# EAGLE library part TJA1040 (library lieven)
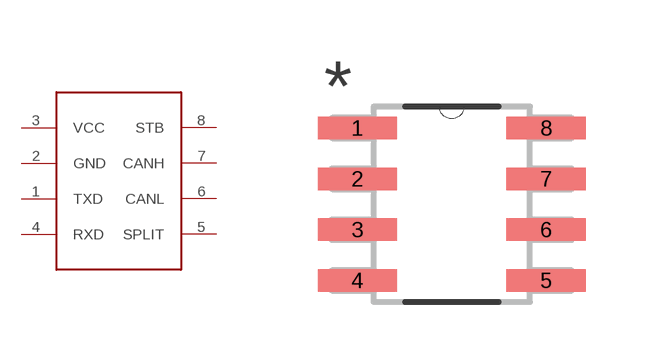
[diagram p7: symbol with the pads of SOIC8-N_MC; footprint SOIC8-N_MC]

Designator prefix -

## TJA1040  [SOIC8-N_MC]
1  TXD  in
2  GND  pwr
3  VCC  pwr
4  RXD  out
5  SPLIT
6  CANL
7  CANH
8  STB

## Footprint SOIC8-N_MC (pad centres in mm)
smd 1.981 x 0.559: 1 -2.362,1.905; 2 -2.362,0.635; 3 -2.362,-0.635; 4 -2.362,-1.905; 5 2.362,-1.905; 6 2.362,-0.635; 7 2.362,0.635; 8 2.362,1.905